# Altium integrated library heath_monitor.IntLib: 6 symbols
Pins are listed as number, name and electrical type; pins without a type are passive.

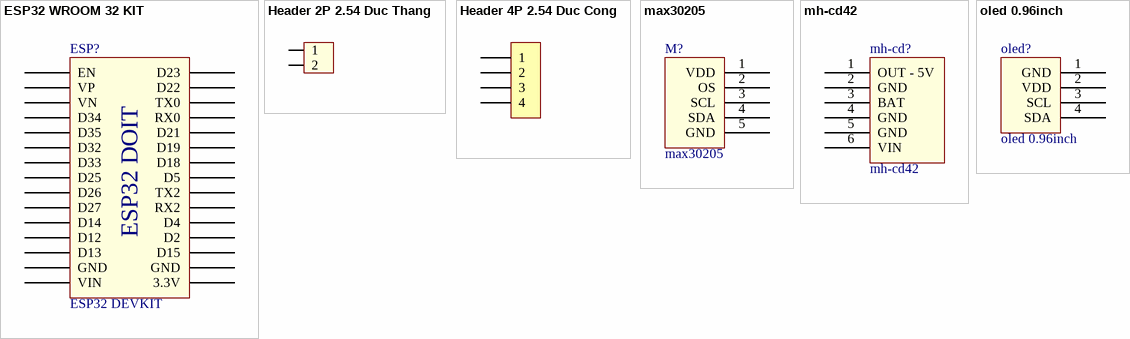
[diagram p0: symbols ESP32 WROOM 32 KIT to oled 0.96inch]

## ESP32 WROOM 32 KIT
designator ESP?, comment ESP32 DEVKIT
footprint ESP32 WROOM 32 KIT
pins: 1 EN, 2 VP, 3 VN, 4 D34, 5 D35, 6 D32, 7 D33, 8 D25, 9 D26, 10 D27, 11 D14, 12 D12, 13 D13, 14 GND, 15 VIN, 16 3.3V, 17 GND, 18 D15, 19 D2, 20 D4, 21 RX2, 22 TX2, 23 D5, 24 D18, 25 D19, 26 D21, 27 RX0, 28 TX0, 29 D22, 30 D23
text: ESP32 DOIT

## Header 2P 2.54 Duc Thang
designator Nguon sac?
Cắm; Ten_Linh_Kien: Header 2P XH2.54-2P Đực Thẳng; Don_Vi: Con; Ma_Hang: MH001283; Chung_Loai: Cắm
footprint XH2.54M-2
pins: 1, 2

## Header 4P 2.54 Duc Cong
designator h?
Cắm; Ten_Linh_Kien: Header 4P XH2.54-4P Đực Cong; Don_Vi: Con; Ma_Hang: MH001310; Chung_Loai: Cắm
footprint Header 4P DC 2.54
pins: 1, 2, 3, 4

## max30205
designator M?
Mã hàng: AM-057; Giá: 178.000
footprint max30205
pins: 1 VDD, 2 OS, 3 SCL, 4 SDA, 5 GND

## mh-cd42
designator mh-cd?
footprint mh-cd42
pins: 1 OUT - 5V, 2 GND, 3 BAT, 4 GND, 5 GND, 6 VIN "ngu?n vào"

## oled 0.96inch
designator oled?
footprint oled 0x96inch
pins: 1 GND, 2 VDD, 3 SCL, 4 SDA